# Altium footprint library HEADER10.PcbLib: 1 footprints
Each footprint in its own frame and in the unit in brackets; x right, y up, seen from the top. Pads: shape width x height; smd on the part's side, far side on the other; paste and mask are expansions set on the pad; w line width, h text height; cw(c..) or ccw(c..) is an arc to the next point about the centre after c.
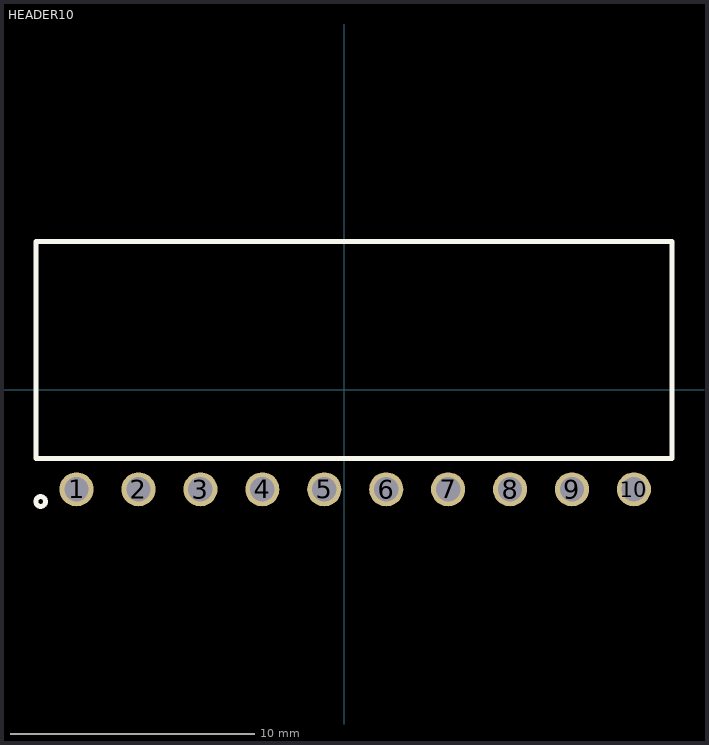
[diagram p0: the footprint, top view; thin cyan lines are the x and y axes]

## HEADER10 [mm]
pads (10):
  round 1.4 / inner round 1.4 / far side oval 1.4x2.2 hole 1 mask+0.1: 1(-10.972,-4.089) 2(-8.432,-4.089) 3(-5.892,-4.089) 4(-3.352,-4.089) 5(-0.812,-4.089) 6(1.728,-4.089) 7(4.268,-4.089) 8(6.808,-4.089) 9(9.348,-4.089) 10(11.888,-4.089)
Top Overlay:
  circle w0.2: c-12.442,-4.589 r0.2
  lines w0.2: -12.642,-2.819 -12.642,6.071 13.458,6.071 13.458,-2.819 -12.642,-2.819
3D body "BB02-JB102-XR2-000000-6T_rev1.9.STEP": height 2.55, standoff -3.1, extent -12.496,-4.389 13.404,5.911